# EAGLE library part LDQ-M282RI (library eagle-library-engr-240-f22)
LED Displays & Accessories LED Display Source: Datasheet <https://componentsearchengine.com/Datasheets/1/LDQ-M282RI.pdf>
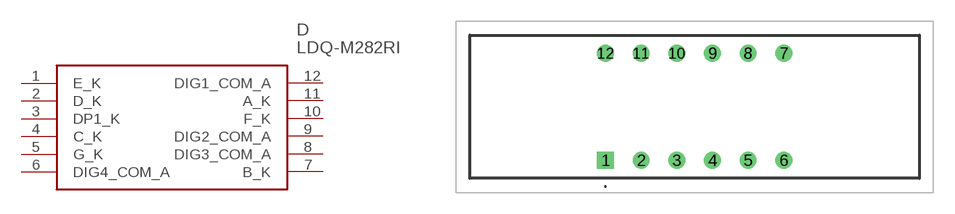
[diagram p0: symbol with the pads of LDQM282RI; footprint LDQM282RI]

Designator prefix D

## LDQ-M282RI (DESCRIPTION: LED Displays & Accessories LED Display; HEIGHT: 6.05mm; MANUFACTURER_NAME: Lumex; MANUFACTURER_PART_NUMBER: LDQ-M282RI; MOUSER_PART_NUMBER: 696-LDQ-M282RI; MOUSER_PRICE-STOCK: https://www.mouser.com/Search/Refine.aspx?Keyword=696-LDQ-M282RI)  [LDQM282RI]
1  E_K
2  D_K
3  DP1_K
4  C_K
5  G_K
6  DIG4_COM_A
7  B_K
8  DIG3_COM_A
9  DIG2_COM_A
10  F_K
11  A_K
12  DIG1_COM_A

## Footprint LDQM282RI (pad centres in mm)
LDQ-M282RI-4
drill 0.65 pad 1.192 square: 1 0,0
drill 0.65 pad 1.192: 2 2.54,0; 3 5.08,0; 4 7.62,0; 5 10.16,0; 6 12.7,0; 7 12.7,7.62; 8 10.16,7.62; 9 7.62,7.62; 10 5.08,7.62; 11 2.54,7.62; 12 0,7.62